# EAGLE library part 2.2TFT (library General)
http://www.ebay.com/itm/2-2-TFT-LCD-Module-Touch-Panel-Screen-PCB-Adpater-SD-Card-Cage-/170734608691?pt=LH_DefaultDomain_0&hash=item27c0936133
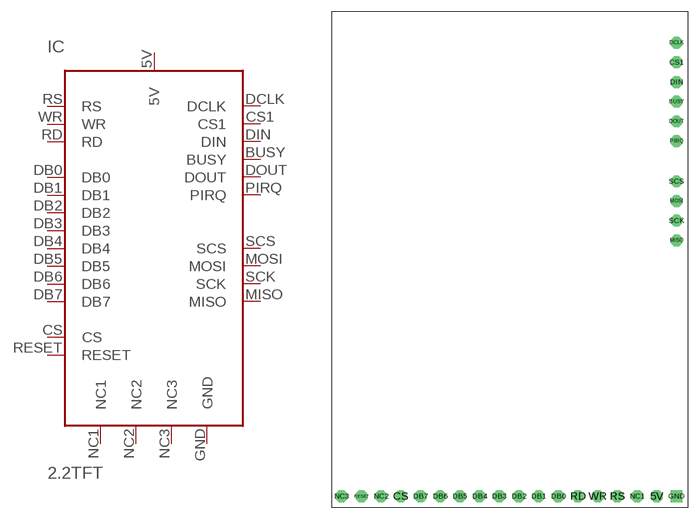
[diagram p0: symbol with the pads of 2.2TFT; footprint 2.2TFT]

Designator prefix IC

## 2.2TFT  [2.2TFT]
5V  5V
BUSY  BUSY
CS  CS
CS1  CS1
DB0  DB0
DB1  DB1
DB2  DB2
DB3  DB3
DB4  DB4
DB5  DB5
DB6  DB6
DB7  DB7
DCLK  DCLK
DIN  DIN
DOUT  DOUT
GND  GND
MISO  MISO
MOSI  MOSI
NC1  NC1
NC2  NC2
NC3  NC3
PIRQ  PIRQ
RD  RD
RESET  RESET
RS  RS
SCK  SCK
SCS  SCS
WR  WR

## Footprint 2.2TFT (pad centres in mm)
drill 1.016 octagon: 5V -2.54,0; BUSY 0,50.88; CS -35.56,0; CS1 0,55.96; DB0 -15.24,0; DB1 -17.78,0; DB2 -20.32,0; DB3 -22.86,0; DB4 -25.4,0; DB5 -27.94,0; DB6 -30.48,0; DB7 -33.02,0; DCLK 0,58.5; DIN 0,53.42; DOUT 0,48.34; MISO 0,33; MOSI 0,38.08; NC1 -5.08,0; NC2 -38.1,0; NC3 -43.18,0; PIRQ 0,45.8; RD -12.7,0; RESET -40.64,0; RS -7.62,0; SCK 0,35.54; SCS 0,40.62; WR -10.16,0
drill 1.016 square: GND 0,0